# Altium schematic symbol library CellMonitor.SchLib: 5 symbols
Pins are listed as number, name and electrical type; pins without a type are passive.

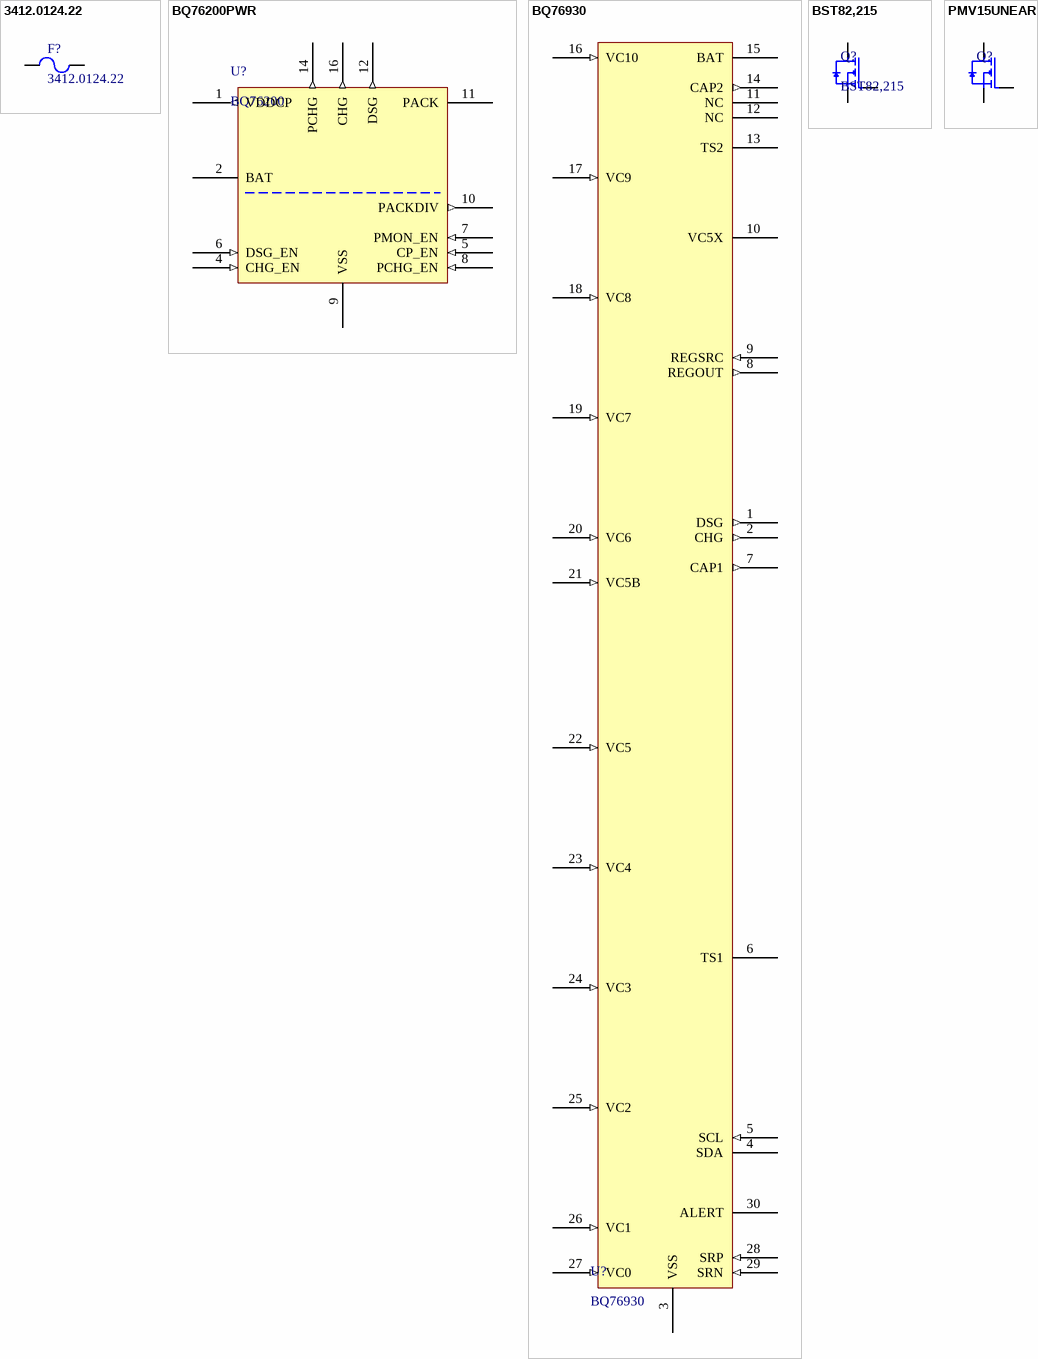
[diagram p0: symbols 3412.0124.22 to PMV15UNEAR]

## 3412.0124.22
designator F?
FUSE BOARD MOUNT 5A 63VDC 0603
footprint 3412.0124.22 (5A Fuse)
pins: 1 "1A 32V", 2

## BQ76200PWR
designator U?, comment BQ76200
High-voltage battery pack front-end charge/discharge high-side NFET driver; MPN: BQ76200PWR; Manufacturer: Texas Instruments
footprint BQ76200 (TSOP, 16-Leads, Body 5.00x4.40mm, Pitch 0.65mm, IPC Medium Density)
pins: 1 VDDCP (out), 2 BAT, 4 CHG_EN (in), 5 CP_EN (in), 6 DSG_EN (in), 7 PMON_EN (in), 8 PCHG_EN (in), 9 VSS, 10 PACKDIV (out), 11 PACK, 12 DSG (out), 14 PCHG (out), 16 CHG (out)

## BQ76930
designator U?
Battery Monitoring/Fuel Gauge Li-Ion/Li-Polymer/LiFePO4 0V to 16V 30-Pin TSSOP T/R; InternalPart: Test1234; Manufacturer: Texas Instruments; Manufacturer Part Number: BQ7693003DBTR; Operating Supply Voltage: 25V; Interface: I2C; Fault Protection: Over Current,Short Circuit,Over/Under Voltage; Supplier 1: Digi-Key; RoHS: Yes; Category: Battery Management; Stock 1: 4521; Pricing 1: 1=4.66000, 10=4.18900, 25=3.96000, 100=3.25600, 250=2.92160, 500=2.81600, 1000=2.34080 (USD); Mount: Surface Mount; Case/Package: TFSOP; Number of Pins: 30; Weight: 0.003439oz; Contact Plating: Gold; Min Operating Temperature: -40°C; Max Operating Temperature: 85°C; Output Voltage: 16V; Packaging: Tape and Reel; Package Quantity: 2000; Lead Free: Lead Free; ComponentLink1URL: http://www.ti.com/lit/gpn/bq76930?src-supplier=Mouser; ComponentLink1Description: http://www.ti.com/lit/gpn/bq76930?src-supplier=Mouser; ComponentLink2URL: http://www.ti.com/lit/ds/symlink/bq76930.pdf?src-supplier=Digi-Key; ComponentLink2Description: http://www.ti.com/lit/ds/symlink/bq76930.pdf?src-supplier=Digi-Key; ComponentLink3URL: http://www.ti.com/lit/pdf/slpt038?src-supplier=Digi-Key; ComponentLink3Description: http://www.ti.com/lit/pdf/slpt038?src-supplier=Digi-Key; ComponentLink4URL: http://www.ti.com/general/docs/lit/getliterature.tsp?genericPartNumber=BQ76920&amp;&amp;fileType=pdf&src-supplier=Avnet+Asia; ComponentLink4Description: http://www.ti.com/general/docs/lit/getliterature.tsp?genericPartNumber=BQ76920&amp;&amp;fileType=pdf&src-supplier=Avnet+Asia; ComponentLink5URL: http://www.ti.com/general/docs/lit/getliterature.tsp?genericPartNumber=BQ76920&&fileType=pdf&src-supplier=Avnet; ComponentLink5Description: http://www.ti.com/general/docs/lit/getliterature.tsp?genericPartNumber=BQ76920&&fileType=pdf&src-supplier=Avnet; Supplier Part Number 1: 296-39961-1-ND
footprint bq76930 (TSSOP, 30-Leads, Body 7.80x4.40mm, Pitch 0.50mm, IPC Medium Density)
pins: 1 DSG (out) "Discharge FET driver", 2 CHG (out) "Charge Fet driver", 3 VSS (power) "Chip VSS", 4 SDA "I2C communication to the host controller", 5 SCL (in) "I2C communication to the host controller", 6 TS1 "Thermister #1 positive terminal", 7 CAP1 (out) "Capacitor to VSS", 8 REGOUT (out) "Output LDO", 9 REGSRC (in) "Input source for output LDO", 10 VC5X (power) "Thermistor #2 negative terminal", 11 NC (power) "No connect (short to cap2)", 12 NC (power) "No connect (short to cap2)", 13 TS2 "Thermister #2 positive terminal", 14 CAP2 (out) "Capacitor to VC5X", 15 BAT (power) "Battery Top Most terminal", 16 VC10 (in) "Sense voltage for 10th cell positive terminal", 17 VC9 (in) "Sense voltage for 9th cell positive terminal", 18 VC8 (in) "Sense voltage for 8th cell positive terminal", 19 VC7 (in) "Sense voltage for 7th cell positive terminal", 20 VC6 (in) "Sense voltage for 6th cell positive terminal", 21 VC5B (in) "Sense voltage for 6th cell negative terminal", 22 VC5 (in) "Sense voltage for 5th cell positive terminal", 23 VC4 (in) "Sense voltage for 4th cell positive terminal", 24 VC3 (in) "Sense voltage for 3rd cell positive terminal", 25 VC2 (in) "Sense voltage for 2nd cell positive terminal", 26 VC1 (in) "Sense voltage for 1st cell positive terminal", 27 VC0 (in) "Sense voltage for 1st cell negative terminal", 28 SRP (in) "Negative current sense (nearest VSS)", 29 SRN (in) "Positive current sense", 30 ALERT "Alert ouput and override input"

## BST82,215
designator Q?
MOSFET N-CH, 20V, SOT23
footprint BST82,215 (SOT23, 3-Leads, Body 2.90x2.30mm, Pitch 0.95mm, IPC Medium Density)
pins: D Drain, G Gate, S Source

## PMV15UNEAR
designator Q?, comment MOSFET N  (value not drawn)
MOSFET N-CH, 20V, SOT23; Manufacturer: Nexperia
footprint PMV15UNEAR
pins: D Drain, G Gate, S Source